# EAGLE library part AIS2120SXTR (library SamacSys_Parts)
Hi-g (+-120g) acelrometer/vibration sensor 2-axis Source: Datasheet <https://ms.componentsearchengine.com/Datasheets/1/AIS2120SXTR.pdf>
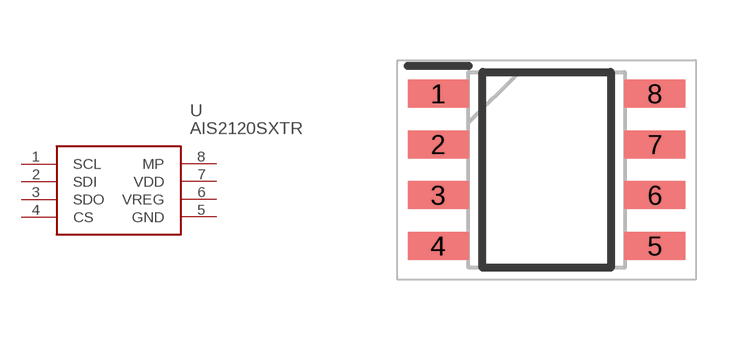
[diagram p6: symbol with the pads of SOIC127P600X175-8N; footprint SOIC127P600X175-8N]

Designator prefix U

## AIS2120SXTR (DESCRIPTION: Hi-g (+-120g) acelrometer/vibration sensor 2-axis; HEIGHT: 1.75mm; MANUFACTURER_NAME: STMicroelectronics; MANUFACTURER_PART_NUMBER: AIS2120SXTR; MOUSER_PART_NUMBER: 511-AIS2120SXTR; MOUSER_PRICE-STOCK: https://www.mouser.co.uk/ProductDetail/STMicroelectronics/AIS2120SXTR?qs=BA62vJVifGr1I5YSmVV5qQ%3D%3D)  [SOIC127P600X175-8N]
1  SCL
2  SDI
3  SDO
4  CS
5  GND
6  VREG
7  VDD
8  MP

## Footprint SOIC127P600X175-8N (pad centres in mm)
SOIC-8 - Package D
smd 1.525 x 0.7: 1 -2.712,1.905; 2 -2.712,0.635; 3 -2.712,-0.635; 4 -2.712,-1.905; 5 2.712,-1.905; 6 2.712,-0.635; 7 2.712,0.635; 8 2.712,1.905